# Altium footprint library DL.PcbLib: 8 footprints
Each footprint in its own frame and in the unit in brackets; x right, y up, seen from the top. Pads: shape width x height; smd on the part's side, far side on the other; paste and mask are expansions set on the pad; w line width, h text height; cw(c..) or ccw(c..) is an arc to the next point about the centre after c.
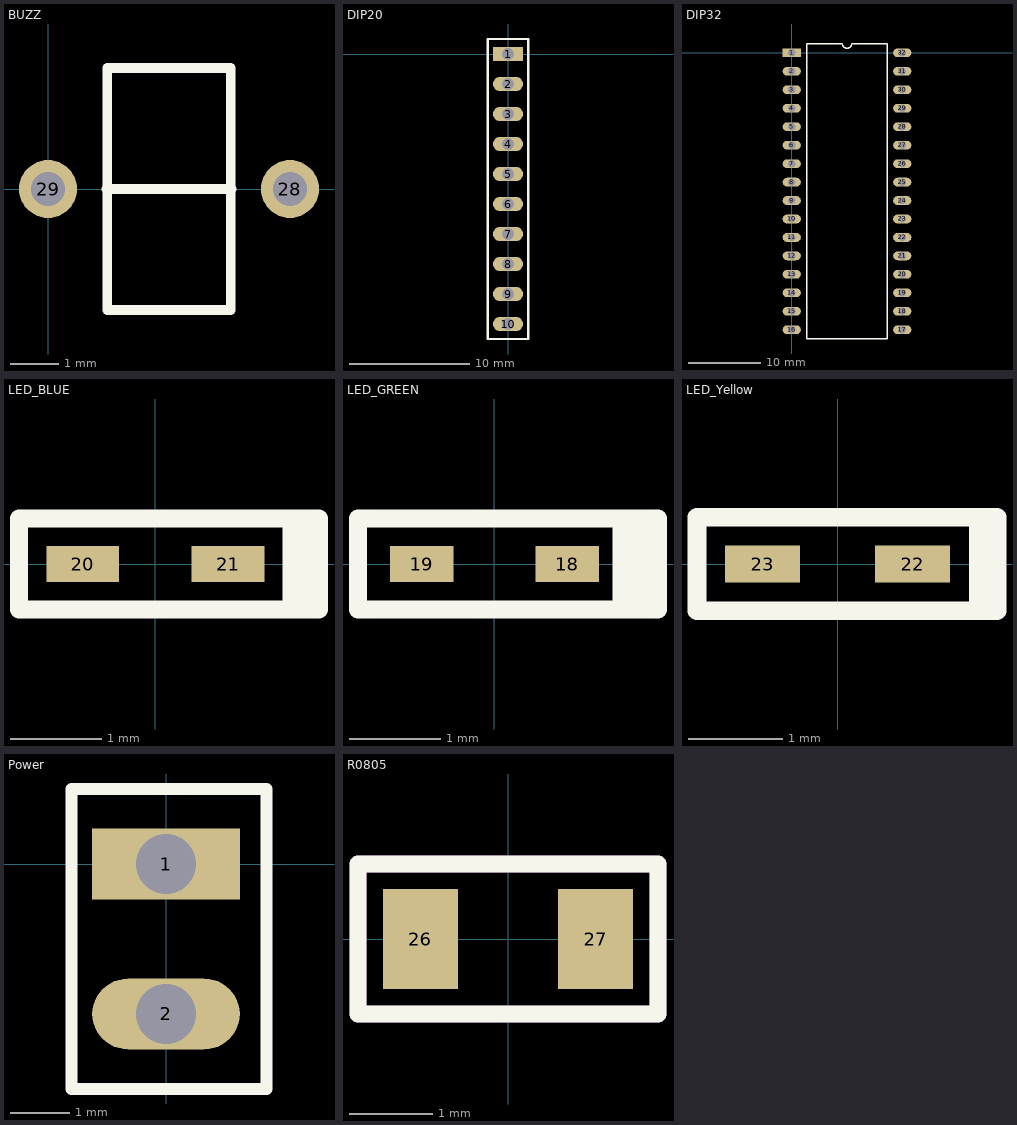
[diagram p0: the footprints below, top view; thin cyan lines are the x and y axes]

## BUZZ [mm]
pads (2):
  round 1.2 hole 0.7: 28(5,0) 29(0,0)
Top Overlay:
  lines w0.2: 1.2,0 3.775,0 ; 1.225,0 3.8,0 ; 3.775,0 3.775,-2.5 1.225,-2.5 1.225,2.5 3.775,2.5 3.775,0
Top Designator:
  text ".Designator" at -5.118,-0.508 h1.52
3D body "PS1240P02BT--3DModel-STEP-56544.STEP": height 6.89, standoff -14.11, extent -3.6,-6.1 8.6,6.1

## DIP20 [mm]
pads (10):
  rect 2.5x1.2 hole 1.02: 1(0,0)
  oval 2.5x1.2 hole 1.02: 2(0,-2.5) 3(0,-5) 4(0,-7.5) 5(0,-10) 6(0,-12.5) 7(0,-15) 8(0,-17.5) 9(0,-20) 10(0,-22.5)
Top Overlay:
  lines w0.2: -1.7,-23.75 -1.7,1.25 1.7,1.25 1.7,-23.75 -1.7,-23.75
Top Designator:
  text ".Designator" at -7.618,-11.808 h1.52
3D body "PPTC101LFBN-RC--3DModel-STEP-56544.STEP": height 8.51, standoff -3.2, extent -1.2,-24.254 1.34,1.654

## DIP32 [mm]
pads (32):
  rect 2.5x1.2 hole 1.02: 1(0,0)
  oval 2.5x1.2 hole 1.02: 2(0,-2.54) 3(0,-5.08) 4(0,-7.62) 5(0,-10.16) 6(0,-12.7) 7(0,-15.24) 8(0,-17.78) 9(0,-20.32) 10(0,-22.86) 11(0,-25.4) 12(0,-27.94) 13(0,-30.48) 14(0,-33.02) 15(0,-35.56) 16(0,-38.1) 17(15.2,-38.1) 18(15.2,-35.56) 19(15.2,-33.02) 20(15.2,-30.48) 21(15.2,-27.94) 22(15.2,-25.4) 23(15.2,-22.86) 24(15.2,-20.32) 25(15.2,-17.78) 26(15.2,-15.24) 27(15.2,-12.7) 28(15.2,-10.16) 29(15.2,-7.62) 30(15.2,-5.08) 31(15.2,-2.54) 32(15.2,0)
Top Overlay:
  lines w0.2: 2.085,-39.37 13.115,-39.37 13.115,1.27 8.235,1.27 cw(c7.6,1.27) 6.965,1.27 2.085,1.27 2.085,-39.37
Top Assembly:
  text "'.Designator'" at -13.331,0 h0.7
  text "USB_THIS_SIDE" at 2.903,1.503 h0.76
Top Designator:
  text ".Designator" at -6.007,-18.911 h1.52
3D body "PPTC161LFBN-RC--3DModel-STEP-56544.STEP": height 8.51, standoff -3.2, extent 13.86,-39.6 16.4,1.548
3D body "PPTC161LFBN-RC--3DModel-STEP-56544.STEP": height 8.51, standoff -3.2, extent -1.2,-39.6 1.34,1.548

## LED_BLUE [mm]
pads (2):
  rect 0.8x0.4 smd: 20(-0.8,0) 21(0.8,0)
Top Overlay:
  rectangle: 1.4,-0.5 1.8,0.5
  lines w0.2: -1.5,-0.5 1.8,-0.5 1.8,0.5 -1.5,0.5 -1.5,-0.5
Top Designator:
  text ".Designator" at -7.468,-0.508 h1.52
3D body "LTST-C191KRKT.STEP": height 0.55, standoff 0, extent -0.8,-0.4 0.8,0.4

## LED_GREEN [mm]
pads (2):
  rect 0.7x0.4 smd: 18(0.8,0) 19(-0.8,0)
Top Overlay:
  rectangle: 1.3,-0.5 1.8,0.5
  lines w0.2: -1.5,-0.5 -1.5,0.5 1.8,0.5 1.8,-0.5 -1.5,-0.5
Top Designator:
  text ".Designator" at -8.118,-3.308 h1.52
3D body "LTST-C191KGKT--3DModel-STEP-56544.STEP": height 0.55, standoff 0, extent -0.8,-0.4 0.8,0.4

## LED_Yellow [mm]
pads (2):
  rect 0.8x0.4 smd: 22(0.8,0) 23(-0.8,0)
Top Overlay:
  rectangle: 1.4,-0.5 1.7,0.5
  lines w0.2: -1.5,-0.5 -1.5,0.5 1.7,0.5 1.7,0.05 1.7,-0.05 1.7,-0.5 -1.5,-0.5
Top Designator:
  text ".Designator" at -7.618,-3.208 h1.52
3D body "LTST-C191KSKT.STEP": height 0.55, standoff 0, extent -0.8,-0.4 0.8,0.4

## Power [mm]
pads (2):
  rect 2.5x1.2 hole 1.02: 1(0,0)
  oval 2.5x1.2 hole 1.02: 2(0,-2.54)
Top Overlay:
  lines w0.2: -1.6,-3.81 -1.6,1.27 1.7,1.27 1.7,-3.81 -1.6,-3.81
Top Designator:
  text ".Designator" at -7.568,-1.808 h1.52
3D body "PPTC021LFBN-RC--3DModel-STEP-56544.STEP": height 8.51, standoff -3.2, extent -1.37,-4.094 1.17,1.494

## R0805 [mm]
pads (2):
  rect 0.9x1.2 smd: 26(-1.05,0) 27(1.05,0)
Top Overlay:
  lines w0.2: -1.8,-0.9 1.8,-0.9 1.8,0.9 -1.8,0.9 -1.8,-0.9
Top Assembly:
  lines w0.2: -1.8,-0.9 1.8,-0.9 1.8,0.9 -1.8,0.9 -1.8,-0.9
  text "'.Designator'" at -13.331,0 h0.7
Top Designator:
  text ".Designator" at -7.618,0.389 h1.52
3D body "RC0805FR-07100RL (1).STEP": height 0.61, standoff 0.01, extent -1,-0.625 1,0.625